# Altium footprint library lm_lib.PcbLib: 5 footprints
Each footprint in its own frame and in the unit in brackets; x right, y up, seen from the top. Pads: shape width x height; smd on the part's side, far side on the other; paste and mask are expansions set on the pad; w line width, h text height; cw(c..) or ccw(c..) is an arc to the next point about the centre after c.
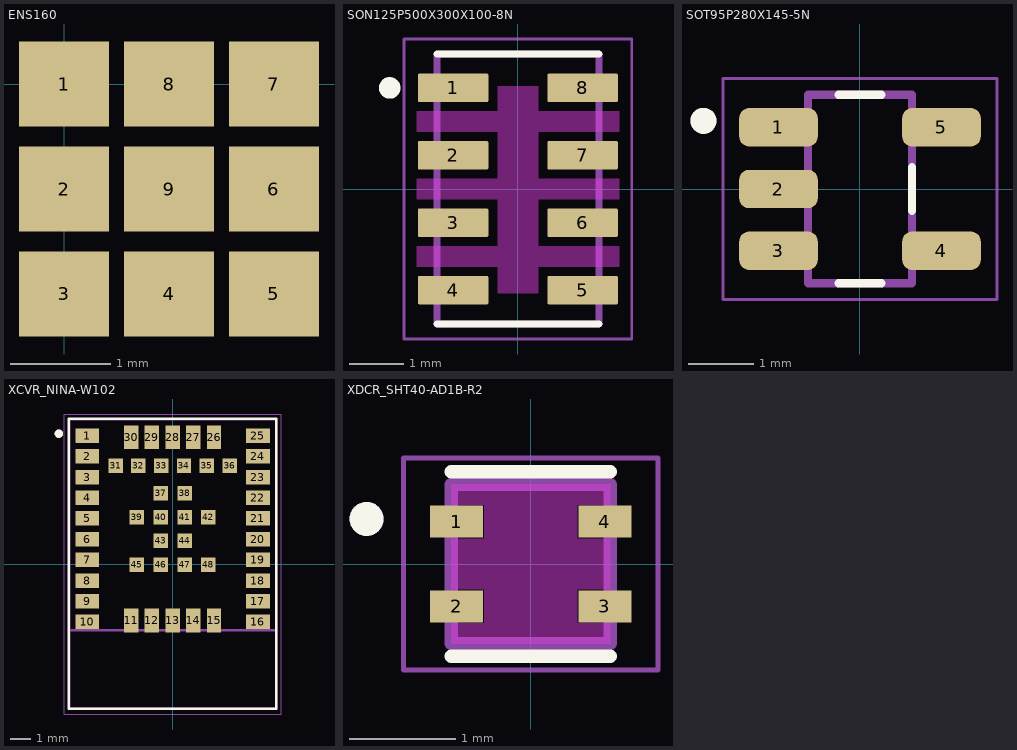
[diagram p0: the footprints below, top view; thin cyan lines are the x and y axes]

## ENS160 [mm]
pads (9):
  rect 0.9x0.85 smd: 1(0,0) 2(0,-1.05) 3(0,-2.1) 4(1.05,-2.1) 5(2.1,-2.1) 6(2.1,-1.05) 7(2.1,0) 8(1.05,0) 9(1.05,-1.05)

## SON125P500X300X100-8N [mm]
pads (8):
  rrect13% 1.31x0.53 smd: 1(-1.2,1.875) 2(-1.2,0.625) 3(-1.2,-0.625) 4(-1.2,-1.875) 5(1.2,-1.875) 6(1.2,-0.625) 7(1.2,0.625) 8(1.2,1.875)
Top Overlay:
  circle w0.2: c-2.377,1.873 r0.1
  lines w0.127: -1.5,-2.5 1.5,-2.5 ; -1.5,2.5 1.5,2.5
Keep-Out Layer:
  region: 0.381,-1.935 -0.375,-1.935 -0.375,1.905 0.381,1.905
  region: 0.381,-1.935 -0.375,-1.935 -0.375,1.905 0.381,1.905
  region: 0.381,-1.935 -0.375,-1.935 -0.375,1.905 0.381,1.905
  region: 1.875,-1.439 -1.877,-1.439 -1.877,-1.062 1.875,-1.062
  region: 1.875,-1.44 -1.878,-1.44 -1.878,-1.062 1.875,-1.062
  region: 1.875,-1.44 -1.878,-1.44 -1.878,-1.062 1.875,-1.062
  region: 1.875,-0.188 -1.877,-0.188 -1.877,0.188 1.875,0.188
  region: 1.875,-0.188 -1.878,-0.188 -1.878,0.188 1.875,0.188
  region: 1.875,-0.188 -1.878,-0.188 -1.878,0.188 1.875,0.188
  region: 1.875,1.063 -1.876,1.063 -1.876,1.438 1.875,1.438
  region: 1.875,1.064 -1.878,1.064 -1.878,1.438 1.875,1.438
  region: 1.875,1.063 -1.875,1.063 -1.875,1.438 1.875,1.438
Mechanical 13:
  circle w0.2: c-0.877,1.873 r0.1
  lines w0.127: -1.5,-2.5 1.5,-2.5 1.5,2.5 -1.5,2.5 -1.5,-2.5
Mechanical 15:
  lines w0.05: -2.11,-2.78 2.11,-2.78 2.11,2.78 -2.11,2.78 -2.11,-2.78

## SOT95P280X145-5N [mm]
pads (5):
  rrect50% 1.21x0.59 smd: 1(-1.255,0.95) 2(-1.255,0) 3(-1.255,-0.95) 4(1.255,-0.95) 5(1.255,0.95)
Top Overlay:
  circle w0.2: c-2.41,1.05 r0.1
  lines w0.127: -0.33,-1.45 0.33,-1.45 ; -0.33,1.45 0.33,1.45 ; 0.8,-0.335 0.8,0.335
Mechanical 13:
  circle w0.2: c-2.41,1.05 r0.1
  lines w0.127: -0.8,-1.45 -0.8,1.45 0.8,1.45 0.8,-1.45 -0.8,-1.45
Mechanical 15:
  lines w0.05: -2.11,-1.7 2.11,-1.7 2.11,1.7 -2.11,1.7 -2.11,-1.7

## XCVR_NINA-W102 [mm]
pads (48):
  rect 1.15x0.7 smd: 1(-4.125,6.2) 2(-4.125,5.2) 3(-4.125,4.2) 4(-4.125,3.2) 5(-4.125,2.2) 6(-4.125,1.2) 7(-4.125,0.2) 8(-4.125,-0.8) 9(-4.125,-1.8) 10(-4.125,-2.8) 16(4.125,-2.8) 17(4.125,-1.8) 18(4.125,-0.8) 19(4.125,0.2) 20(4.125,1.2) 21(4.125,2.2) 22(4.125,3.2) 23(4.125,4.2) 24(4.125,5.2) 25(4.125,6.2)
  rect 0.7x1.15 smd: 11(-2,-2.725) 12(-1,-2.725) 13(0,-2.725) 14(1,-2.725) 15(2,-2.725) 26(2,6.125) 27(1,6.125) 28(0,6.125) 29(-1,6.125) 30(-2,6.125)
  rect 0.7x0.7 smd: 31(-2.75,4.75) 32(-1.65,4.75) 33(-0.55,4.75) 34(0.55,4.75) 35(1.65,4.75) 36(2.75,4.75) 37(-0.575,3.42) 38(0.575,3.42) 39(-1.725,2.27) 40(-0.575,2.27) 41(0.575,2.27) 42(1.725,2.27) 43(-0.575,1.12) 44(0.575,1.12) 45(-1.725,-0.03) 46(-0.575,-0.03) 47(0.575,-0.03) 48(1.725,-0.03)
Top Overlay:
  circle w0.2: c-5.5,6.3 r0.1
  lines w0.127: -5.015,-7 5.015,-7 5.015,7.015 -5.015,7.015 -5.015,-7
Mechanical 13:
  circle w0.2: c-5.5,6.3 r0.1
  lines w0.127: -5,-3.2 -5,-7 5,-7 5,-3.2 ; -5,-3.2 -5,7 5,7 5,-3.2 ; -5,-3.2 5,-3.2
Mechanical 15:
  lines w0.05: -5.25,-7.25 5.25,-7.25 5.25,7.25 -5.25,7.25 -5.25,-7.25

## XDCR_SHT40-AD1B-R2 [mm]
pads (4):
  rect 0.5x0.3 smd: 1(-0.7,0.4) 2(-0.7,-0.4) 3(0.7,-0.4) 4(0.7,0.4)
Top Overlay:
  circle w0.16: c-1.55,0.425 r0.08
  lines w0.127: -0.75,-0.87 0.75,-0.87 ; -0.75,0.87 0.75,0.87
Keep-Out Layer:
  region: 0.75,0.56 0.44,0.56 0.44,0.24 0.75,0.24 0.75,-0.24 0.44,-0.24 0.44,-0.56 0.75,-0.56 0.75,-0.75 -0.75,-0.75 -0.75,-0.56 -0.44,-0.56 -0.44,-0.24 -0.75,-0.24 -0.75,0.24 -0.44,0.24 -0.44,0.56 -0.75,0.56 -0.75,0.75 0.75,0.75
Mechanical 13:
  circle w0.16: c-1.55,0.425 r0.08
  lines w0.127: -0.75,-0.75 0.75,-0.75 0.75,0.75 -0.75,0.75 -0.75,-0.75
Mechanical 15:
  lines w0.05: -1.2,-1 1.2,-1 1.2,1 -1.2,1 -1.2,-1
3D body "step_temp.STEP": height 0.54, standoff 0, extent -0.751,-0.751 0.751,0.751